# Altium schematic symbol library 691 701 310 0xx B.SchLib: 11 symbols
Pins are listed as number, name and electrical type; pins without a type are passive.

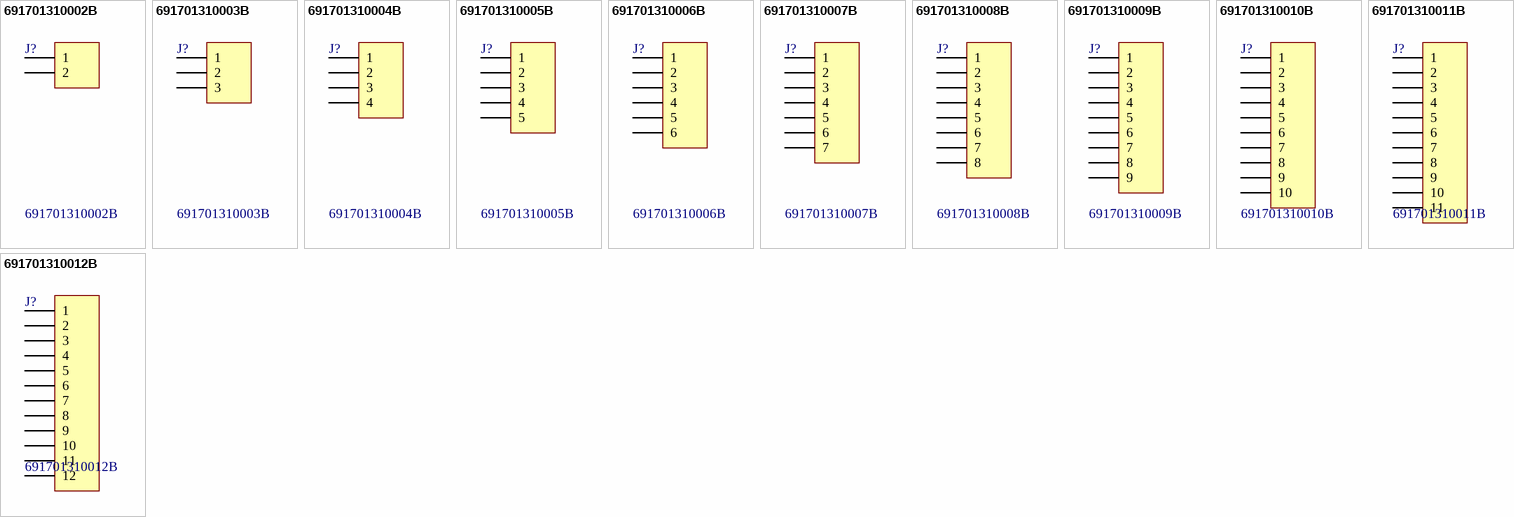
[diagram p0: symbols 691701310002B to 691701310012B]

## 691701310002B
designator J?
WR-TBL Terminal block - serie 7013 B- 3.81 mm; Manufacturer: Würth Elektronik eiSos GmbH; ComponentLink1 Description: Manufacturer; ComponentLink2 Description: Datasheet; NoPins: 2; Created Date: 12 December 2013; partNo: 691701310002B; ComponentLink1URL: http://www.we-online.com; ComponentLink2URL: http://katalog.we-online.de/em/datasheet/6917013100xxB.pdf; Created by: Karrer Zheng
footprint 691701310002B (THR - 3,81mm - PCB Vertical Close - 02p)
pins: 1, 2

## 691701310003B
designator J?
WR-TBL Terminal block - serie 7013 B- 3.81 mm; Manufacturer: Würth Elektronik eiSos GmbH; ComponentLink1 Description: Manufacturer; ComponentLink2 Description: Datasheet; NoPins: 3; Created Date: 12 December 2013; partNo: 691701310003B; ComponentLink1URL: http://www.we-online.com; ComponentLink2URL: http://katalog.we-online.de/em/datasheet/6917013100xxB.pdf; Created by: Karrer Zheng
footprint 691701310003B (THR - 3,81mm - PCB Vertical Close - 03p)
pins: 1, 2, 3

## 691701310004B
designator J?
WR-TBL Terminal block - serie 7013 B- 3.81 mm; Manufacturer: Würth Elektronik eiSos GmbH; ComponentLink1 Description: Manufacturer; ComponentLink2 Description: Datasheet; NoPins: 4; Created Date: 12 December 2013; partNo: 691701310004B; ComponentLink1URL: http://www.we-online.com; ComponentLink2URL: http://katalog.we-online.de/em/datasheet/6917013100xxB.pdf; Created by: Karrer Zheng
footprint 691701310004B (THR - 3,81mm - PCB Vertical Close - 04p)
pins: 1, 2, 3, 4

## 691701310005B
designator J?
WR-TBL Terminal block - serie 7013 B- 3.81 mm; Manufacturer: Würth Elektronik eiSos GmbH; ComponentLink1 Description: Manufacturer; ComponentLink2 Description: Datasheet; NoPins: 5; Created Date: 12 December 2013; partNo: 691701310005B; ComponentLink1URL: http://www.we-online.com; ComponentLink2URL: http://katalog.we-online.de/em/datasheet/6917013100xxB.pdf; Created by: Karrer Zheng
footprint 691701310005B (THR - 3,81mm - PCB Vertical Close - 05p)
pins: 1, 2, 3, 4, 5

## 691701310006B
designator J?
WR-TBL Terminal block - serie 7013 B- 3.81 mm; Manufacturer: Würth Elektronik eiSos GmbH; ComponentLink1 Description: Manufacturer; ComponentLink2 Description: Datasheet; NoPins: 6; Created Date: 12 December 2013; partNo: 691701310006B; ComponentLink1URL: http://www.we-online.com; ComponentLink2URL: http://katalog.we-online.de/em/datasheet/6917013100xxB.pdf; Created by: Karrer Zheng
footprint 691701310006B (THR - 3,81mm - PCB Vertical Close - 06p)
pins: 1, 2, 3, 4, 5, 6

## 691701310007B
designator J?
WR-TBL Terminal block - serie 7013 B- 3.81 mm; Manufacturer: Würth Elektronik eiSos GmbH; ComponentLink1 Description: Manufacturer; ComponentLink2 Description: Datasheet; NoPins: 7; Created Date: 12 December 2013; partNo: 691701310007B; ComponentLink1URL: http://www.we-online.com; ComponentLink2URL: http://katalog.we-online.de/em/datasheet/6917013100xxB.pdf; Created by: Karrer Zheng
footprint 691701310007B (THR - 3,81mm - PCB Vertical Close - 07p)
pins: 1, 2, 3, 4, 5, 6, 7

## 691701310008B
designator J?
WR-TBL Terminal block - serie 7013 B- 3.81 mm; Manufacturer: Würth Elektronik eiSos GmbH; ComponentLink1 Description: Manufacturer; ComponentLink2 Description: Datasheet; NoPins: 8; Created Date: 12 December 2013; partNo: 691701310008B; ComponentLink1URL: http://www.we-online.com; ComponentLink2URL: http://katalog.we-online.de/em/datasheet/6917013100xxB.pdf; Created by: Karrer Zheng
footprint 691701310008B (THR - 3,81mm - PCB Vertical Close - 08p)
pins: 1, 2, 3, 4, 5, 6, 7, 8

## 691701310009B
designator J?
WR-TBL Terminal block - serie 7013 B- 3.81 mm; Manufacturer: Würth Elektronik eiSos GmbH; ComponentLink1 Description: Manufacturer; ComponentLink2 Description: Datasheet; NoPins: 9; Created Date: 12 December 2013; partNo: 691701310009B; ComponentLink1URL: http://www.we-online.com; ComponentLink2URL: http://katalog.we-online.de/em/datasheet/6917013100xxB.pdf; Created by: Karrer Zheng
footprint 691701310009B (THR - 3,81mm - PCB Vertical Close - 09p)
pins: 1, 2, 3, 4, 5, 6, 7, 8, 9

## 691701310010B
designator J?
WR-TBL Terminal block - serie 7013 B- 3.81 mm; Manufacturer: Würth Elektronik eiSos GmbH; ComponentLink1 Description: Manufacturer; ComponentLink2 Description: Datasheet; NoPins: 10; Created Date: 12 December 2013; partNo: 691701310010B; ComponentLink1URL: http://www.we-online.com; ComponentLink2URL: http://katalog.we-online.de/em/datasheet/6917013100xxB.pdf; Created by: Karrer Zheng
footprint 691701310010B (THR - 3,81mm - PCB Vertical Close - 10p)
pins: 1, 2, 3, 4, 5, 6, 7, 8, 9, 10

## 691701310011B
designator J?
WR-TBL Terminal block - serie 7013 B- 3.81 mm; Manufacturer: Würth Elektronik eiSos GmbH; ComponentLink1 Description: Manufacturer; ComponentLink2 Description: Datasheet; NoPins: 11; Created Date: 12 December 2013; partNo: 691701310011B; ComponentLink1URL: http://www.we-online.com; ComponentLink2URL: http://katalog.we-online.de/em/datasheet/6917013100xxB.pdf; Created by: Karrer Zheng
footprint 691701310011B (THR - 3,81mm - PCB Vertical Close - 11p)
pins: 1, 2, 3, 4, 5, 6, 7, 8, 9, 10, 11

## 691701310012B
designator J?
WR-TBL Terminal block - serie 7013 B- 3.81 mm; Manufacturer: Würth Elektronik eiSos GmbH; ComponentLink1 Description: Manufacturer; ComponentLink2 Description: Datasheet; NoPins: 12; Created Date: 12 December 2013; partNo: 691701310012B; ComponentLink1URL: http://www.we-online.com; ComponentLink2URL: http://katalog.we-online.de/em/datasheet/6917013100xxB.pdf; Created by: Karrer Zheng
footprint 691701310012B (THR - 3,81mm - PCB Vertical Close - 12p)
pins: 1, 2, 3, 4, 5, 6, 7, 8, 9, 10, 11, 12